# EAGLE library part SFV20R-3STBE1HLF (library CYCFI_Con)
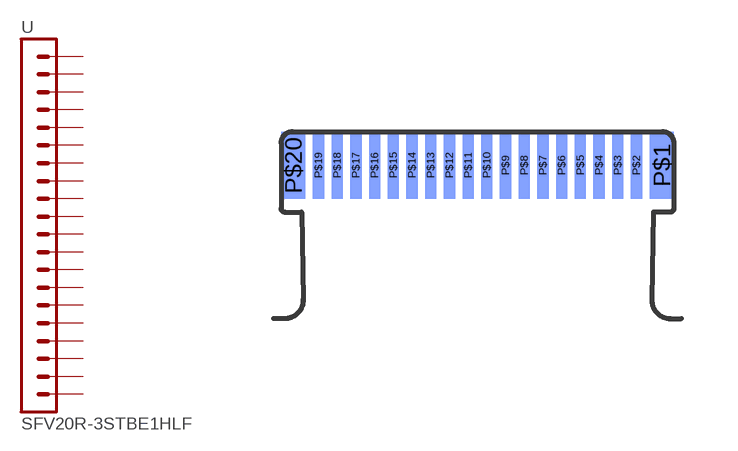
[diagram p22: symbol with the pads of 20P_0.5MMPITCH_ZIF; footprint 20P_0.5MMPITCH_ZIF]

Designator prefix -

## SFV20R-3STBE1HLF  [20P_0.5MMPITCH_ZIF]
P$1  1  pas
P$2  2  pas
P$3  3  pas
P$4  4  pas
P$5  5  pas
P$6  6  pas
P$7  7  pas
P$8  8  pas
P$9  9  pas
P$10  10  pas
P$11  11  pas
P$12  12  pas
P$13  13  pas
P$14  14  pas
P$15  15  pas
P$16  16  pas
P$17  17  pas
P$18  18  pas
P$19  19  pas
P$20  20  pas

## Footprint 20P_0.5MMPITCH_ZIF (pad centres in mm)
smd 0.65 x 1.8 bottom: P$1 4.925,1.25; P$20 -4.925,1.25
smd 0.3 x 1.8 bottom: P$2 4.25,1.25; P$3 3.75,1.25; P$4 3.25,1.25; P$5 2.75,1.25; P$6 2.25,1.25; P$7 1.75,1.25; P$8 1.25,1.25; P$9 0.75,1.25; P$10 0.25,1.25; P$11 -0.25,1.25; P$12 -0.75,1.25; P$13 -1.25,1.25; P$14 -1.75,1.25; P$15 -2.25,1.25; P$16 -2.75,1.25; P$17 -3.25,1.25; P$18 -3.75,1.25; P$19 -4.25,1.25